# EAGLE library part NDC7002N (library UNKNOWN-2024)
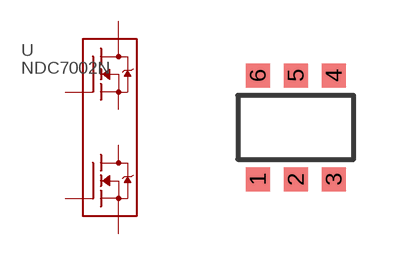
[diagram p22: symbol with the pads of SOT23-6; footprint SOT23-6]

Designator prefix -

## NDC7002N  [SOT23-6]
1  G1  pas
2  S2  pas
3  G2  pas
4  D2  pas
5  S1  pas
6  D1  pas

## Footprint SOT23-6 (pad centres in mm)
smd 0.6 x 0.6: 1 -0.95,-1.3; 2 0,-1.3; 3 0.95,-1.3; 4 0.95,1.3; 5 0,1.3; 6 -0.95,1.3